# Altium schematic symbol library RTE44012F.SchLib: 1 symbol
Pins are listed as number, name and electrical type; pins without a type are passive.

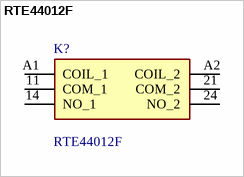
[diagram p0: symbol RTE44012F]

## RTE44012F
designator K?
General Purpose Relays DPST-NO 8A 12VDC; Manufacturer_Name: TE Connectivity; Geometry.Height: 15.7mm; Manufacturer_Part_Number: RTE44012F; Mouser Part Number: 655-RTE44012F; Mouser Price/Stock: https://www.mouser.co.uk/ProductDetail/TE-Connectivity-Schrack/RTE44012F?qs=Y5%2F84ptk%252BSrIWNIdEjPZnw%3D%3D; Arrow Part Number: RTE44012F; Arrow Price/Stock: https://www.arrow.com/en/products/rte44012f/te-connectivity; Datasheet Link: https://componentsearchengine.com/Datasheets/1/RTE44012F.pdf
footprint RTE44012F
pins: 11 COM_1, 14 NO_1, 21 COM_2, 24 NO_2, A1 COIL_1, A2 COIL_2